# Altium schematic symbol library TCA9544APWR.SchLib: 1 symbol
Pins are listed as number, name and electrical type; pins without a type are passive.

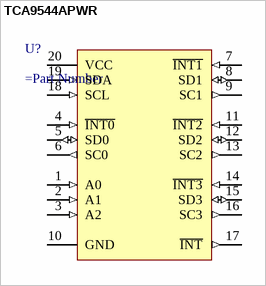
[diagram p0: symbol TCA9544APWR]

## TCA9544APWR
designator U?
=Description
pins: 1 A0 (in), 2 A1 (in), 3 A2 (in), 4 ~{INT0} (in), 5 SD0 (io), 6 SC0 (out), 7 ~{INT1} (in), 8 SD1 (io), 9 SC1 (out), 10 GND (power), 11 ~{INT2} (in), 12 SD2 (io), 13 SC2 (out), 14 ~{INT3} (in), 15 SD3 (io), 16 SC3 (out), 17 ~{INT} (out), 18 SCL (in), 19 SDA (in), 20 VCC (power)